# Altium footprint library NIDAQ6212.PcbLib: 1 footprints
Each footprint in its own frame and in the unit in brackets; x right, y up, seen from the top. Pads: shape width x height; smd on the part's side, far side on the other; paste and mask are expansions set on the pad; w line width, h text height; cw(c..) or ccw(c..) is an arc to the next point about the centre after c.
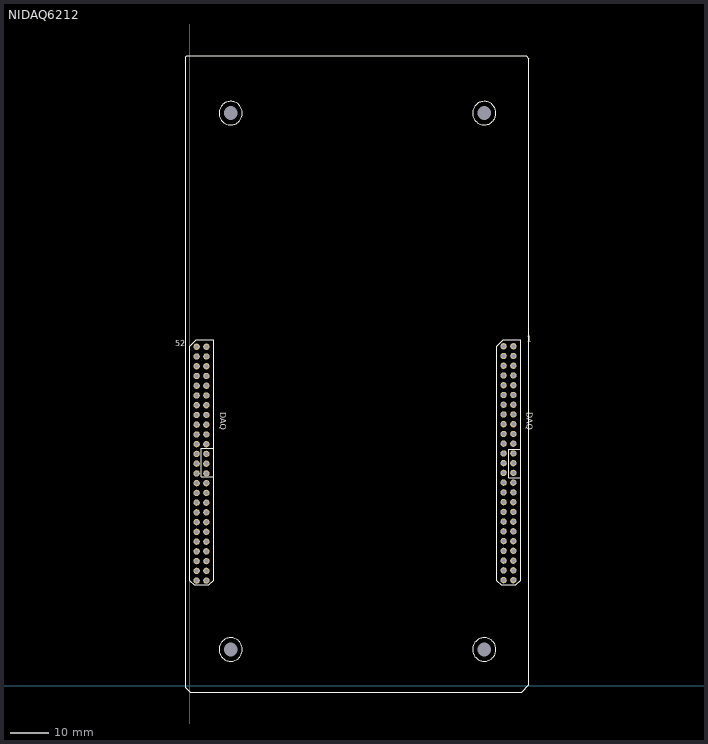
[diagram p0: the footprint, top view; thin cyan lines are the x and y axes]

## NIDAQ6212 [mil]
pads (104):
  round 64.96 hole 40: 1(3320,3485) 2(3220,3485) 3(3320,3385) 4(3220,3385) 5(3320,3285) 6(3220,3285) 7(3320,3185) 8(3220,3185) 9(3320,3085) 10(3220,3085) 11(3320,2985) 12(3220,2985) 13(3320,2885) 14(3220,2885) 15(3320,2785) 16(3220,2785) 17(3320,2685) 18(3220,2685) 19(3320,2585) 20(3220,2585) 21(3320,2485) 22(3220,2485) 23(3320,2385) 24(3220,2385) 25(3320,2285) 26(3220,2285) 27(3320,2185) 28(3220,2185) 29(3320,2085) 30(3220,2085) 31(3320,1985) 32(3220,1985) 33(3320,1885) 34(3220,1885) 35(3320,1785) 36(3220,1785) 37(3320,1685) 38(3220,1685) 39(3320,1585) 40(3220,1585) 41(3320,1485) 42(3220,1485) 43(3320,1385) 44(3220,1385) 45(3320,1285) 46(3220,1285) 47(3320,1185) 48(3220,1185) 49(3320,1085) 50(3220,1085) 51(170,3480) 52(70,3480) 53(170,3380) 54(70,3380) 55(170,3280) 56(70,3280) 57(170,3180) 58(70,3180) 59(170,3080) 60(70,3080) 61(170,2980) 62(70,2980) 63(170,2880) 64(70,2880) 65(170,2780) 66(70,2780) 67(170,2680) 68(70,2680) 69(170,2580) 70(70,2580) 71(170,2480) 72(70,2480) 73(170,2380) 74(70,2380) 75(170,2280) 76(70,2280) 77(170,2180) 78(70,2180) 79(170,2080) 80(70,2080) 81(170,1980) 82(70,1980) 83(170,1880) 84(70,1880) 85(170,1780) 86(70,1780) 87(170,1680) 88(70,1680) 89(170,1580) 90(70,1580) 91(170,1480) 92(70,1480) 93(170,1380) 94(70,1380) 95(170,1280) 96(70,1280) 97(170,1180) 98(70,1180) 99(170,1080) 100(70,1080)
  round 64.96 hole 142: ""(420,373) ""(420,5877) ""(3022,373) ""(3022,5877)
Top Overlay:
  circle w10: c3022,373 r120
  circle w10: c420,373 r120
  circle w10: c420,5877 r120
  circle w10: c3022,5877 r120
  lines w10: 240,2145 120,2145 120,2440 148.75,2440 206.25,2440 245,2440 ; 3390,2430 3361.25,2430 3303.75,2430 3275,2430 3275,2135 3395,2135 ; -40,-20 5,-65 3405,-65 3480,10 3480,6435 3450,6465 -30,6465 -40,6455 -40,-20 ; 0,1080 45,1035 195,1035 245,1085 245,3510 245,3550 205,3550 65,3550 0,3485 0,1080 ; 3150,1080 3150,3485 3215,3550 3355,3550 3395,3550 3395,3510 3395,1085 3345,1035 3195,1035 3150,1080
  text "DAQ" at 310,2805 h60
  text "52" at -150,3485 h60
  text "1" at 3460,3530 h60
  text "DAQ" at 3460,2805 h60
3D body "50pinDAQsocket.stp": height 425.2, standoff -110.24, extent 0,947.05 277.56,3625
3D body "50pinDAQsocket.stp": height 425.2, standoff -110.24, extent 3150,947.05 3427.56,3625
3D body "cu_usb_oem_6212.stp": height 642.11, standoff 35.11, extent -57,20 3385,6451